# EAGLE library part EPD (library TiLDA Mk2 Parts)
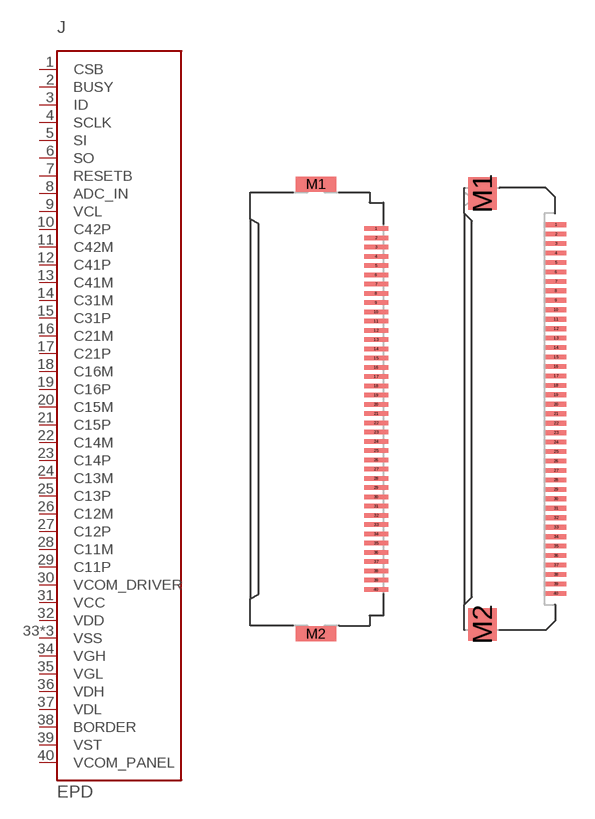
[diagram p3: symbol with the pads of XF2H-4015-1LW; footprints XF2H-4015-1LW, XF2M-4015-1F]

Designator prefix J

## EPD-1LW  [XF2H-4015-1LW]
1  CSB
2  BUSY
3  ID
4  SCLK
5  SI
6  SO
7  RESETB
8  ADC_IN
9  VCL
10  C42P
11  C42M
12  C41P
13  C41M
14  C31M
15  C31P
16  C21M
17  C21P
18  C16M
19  C16P
20  C15M
21  C15P
22  C14M
23  C14P
24  C13M
25  C13P
26  C12M
27  C12P
28  C11M
29  C11P
30  VCOM_DRIVER
31  VCC
32  VDD
33  VSS
34  VGH
35  VGL
36  VDH
37  VDL
38  BORDER
39  VST
40  VCOM_PANEL
M1  VSS
M2  VSS

## EPD-1F  [XF2M-4015-1F]
Pads as for XF2H-4015-1LW

## EPD-1F-REVERSE  [XF2M-4015-1F-REVERSE]
Pads as for XF2H-4015-1LW

## EPD-4A  [XF2R-4015-4A]
Pads as for XF2H-4015-1LW

## EPD-62684  [62684-401100]
Pads as for XF2H-4015-1LW

## Footprint XF2H-4015-1LW (pad centres in mm)
Standard Rotary Backlock Type (0.5 mm-pitch) Source : http://www.omron.com/ecb/products/pdf/fpc.pdf
smd 1.3 x 0.25: 1 3.175,9.75; 2 3.175,9.25; 3 3.175,8.75; 4 3.175,8.25; 5 3.175,7.75; 6 3.175,7.25; 7 3.175,6.75; 8 3.175,6.25; 9 3.175,5.75; 10 3.175,5.25; 11 3.175,4.75; 12 3.175,4.25; 13 3.175,3.75; 14 3.175,3.25; 15 3.175,2.75; 16 3.175,2.25; 17 3.175,1.75; 18 3.175,1.25; 19 3.175,0.75; 20 3.175,0.25; 21 3.175,-0.25; 22 3.175,-0.75; 23 3.175,-1.25; 24 3.175,-1.75; 25 3.175,-2.25; 26 3.175,-2.75; 27 3.175,-3.25; 28 3.175,-3.75; 29 3.175,-4.25; 30 3.175,-4.75; 31 3.175,-5.25; 32 3.175,-5.75; 33 3.175,-6.25; 34 3.175,-6.75; 35 3.175,-7.25; 36 3.175,-7.75; 37 3.175,-8.25; 38 3.175,-8.75; 39 3.175,-9.25; 40 3.175,-9.75
smd 2.2 x 0.8: M1 -0.075,12.15; M2 -0.075,-12.15

## Footprint XF2M-4015-1F (pad centres in mm)
Reduced-area Rotary Backlock Type (0.5 mm-pitch) Source : http://www.omron.com/ecb/products/pdf/fpc.pdf
smd 1.1 x 0.25: 1 2.54,9.75; 2 2.54,9.25; 3 2.54,8.75; 4 2.54,8.25; 5 2.54,7.75; 6 2.54,7.25; 7 2.54,6.75; 8 2.54,6.25; 9 2.54,5.75; 10 2.54,5.25; 11 2.54,4.75; 12 2.54,4.25; 13 2.54,3.75; 14 2.54,3.25; 15 2.54,2.75; 16 2.54,2.25; 17 2.54,1.75; 18 2.54,1.25; 19 2.54,0.75; 20 2.54,0.25; 21 2.54,-0.25; 22 2.54,-0.75; 23 2.54,-1.25; 24 2.54,-1.75; 25 2.54,-2.25; 26 2.54,-2.75; 27 2.54,-3.25; 28 2.54,-3.75; 29 2.54,-4.25; 30 2.54,-4.75; 31 2.54,-5.25; 32 2.54,-5.75; 33 2.54,-6.25; 34 2.54,-6.75; 35 2.54,-7.25; 36 2.54,-7.75; 37 2.54,-8.25; 38 2.54,-8.75; 39 2.54,-9.25; 40 2.54,-9.75
smd 1.5 x 1.7: M1 -1.36,11.4; M2 -1.36,-11.4

## Footprint XF2M-4015-1F-REVERSE (pad centres in mm)
smd 1.1 x 0.25: 1 -2.54,9.75; 2 -2.54,9.25; 3 -2.54,8.75; 4 -2.54,8.25; 5 -2.54,7.75; 6 -2.54,7.25; 7 -2.54,6.75; 8 -2.54,6.25; 9 -2.54,5.75; 10 -2.54,5.25; 11 -2.54,4.75; 12 -2.54,4.25; 13 -2.54,3.75; 14 -2.54,3.25; 15 -2.54,2.75; 16 -2.54,2.25; 17 -2.54,1.75; 18 -2.54,1.25; 19 -2.54,0.75; 20 -2.54,0.25; 21 -2.54,-0.25; 22 -2.54,-0.75; 23 -2.54,-1.25; 24 -2.54,-1.75; 25 -2.54,-2.25; 26 -2.54,-2.75; 27 -2.54,-3.25; 28 -2.54,-3.75; 29 -2.54,-4.25; 30 -2.54,-4.75; 31 -2.54,-5.25; 32 -2.54,-5.75; 33 -2.54,-6.25; 34 -2.54,-6.75; 35 -2.54,-7.25; 36 -2.54,-7.75; 37 -2.54,-8.25; 38 -2.54,-8.75; 39 -2.54,-9.25; 40 -2.54,-9.75
smd 1.5 x 1.7: M1 1.36,11.4; M2 1.36,-11.4

## Footprint XF2R-4015-4A (pad centres in mm)
Low-profile Rotary Backlock Type (0.5 mm-pitch) Source : http://www.omron.com/ecb/products/pdf/fpc.pdf
smd 0.85 x 0.25: 1 -2.54,9.75; 2 -2.54,9.25; 3 -2.54,8.75; 4 -2.54,8.25; 5 -2.54,7.75; 6 -2.54,7.25; 7 -2.54,6.75; 8 -2.54,6.25; 9 -2.54,5.75; 10 -2.54,5.25; 11 -2.54,4.75; 12 -2.54,4.25; 13 -2.54,3.75; 14 -2.54,3.25; 15 -2.54,2.75; 16 -2.54,2.25; 17 -2.54,1.75; 18 -2.54,1.25; 19 -2.54,0.75; 20 -2.54,0.25; 21 -2.54,-0.25; 22 -2.54,-0.75; 23 -2.54,-1.25; 24 -2.54,-1.75; 25 -2.54,-2.25; 26 -2.54,-2.75; 27 -2.54,-3.25; 28 -2.54,-3.75; 29 -2.54,-4.25; 30 -2.54,-4.75; 31 -2.54,-5.25; 32 -2.54,-5.75; 33 -2.54,-6.25; 34 -2.54,-6.75; 35 -2.54,-7.25; 36 -2.54,-7.75; 37 -2.54,-8.25; 38 -2.54,-8.75; 39 -2.54,-9.25; 40 -2.54,-9.75
smd 1.4 x 1: M1 -0.915,11.05; M2 -0.915,-11.05

## Footprint 62684-401100 (pad centres in mm)
smd 0.25 x 1.1: 1 -9.75,-2.8; 2 -9.25,-2.8; 3 -8.75,-2.8; 4 -8.25,-2.8; 5 -7.75,-2.8; 6 -7.25,-2.8; 7 -6.75,-2.8; 8 -6.25,-2.8; 9 -5.75,-2.8; 10 -5.25,-2.8; 11 -4.75,-2.8; 12 -4.25,-2.8; 13 -3.75,-2.8; 14 -3.25,-2.8; 15 -2.75,-2.8; 16 -2.25,-2.8; 17 -1.75,-2.8; 18 -1.25,-2.8; 19 -0.75,-2.8; 20 -0.25,-2.8; 21 0.25,-2.8; 22 0.75,-2.8; 23 1.25,-2.8; 24 1.75,-2.8; 25 2.25,-2.8; 26 2.75,-2.8; 27 3.25,-2.8; 28 3.75,-2.8; 29 4.25,-2.8; 30 4.75,-2.8; 31 5.25,-2.8; 32 5.75,-2.8; 33 6.25,-2.8; 34 6.75,-2.8; 35 7.25,-2.8; 36 7.75,-2.8; 37 8.25,-2.8; 38 8.75,-2.8; 39 9.25,-2.8; 40 9.75,-2.8
smd 2.4 x 2.4: M1 11.85,-0.09; M2 -11.85,-0.09